# Altium schematic symbol library RES 16m 1_2W.Schlib: 1 symbol
Pins are listed as number, name and electrical type; pins without a type are passive.

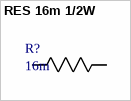
[diagram p0: symbol RES 16m 1/2W]

## RES 16m 1/2W
designator R?, comment 16m
RES SMD 0.016 OHM 1% 1/2W 0805 Thick Film
pins: 1 R1, 2 R2